# EAGLE library part POLOLU_TB6612FNG (library DVD)
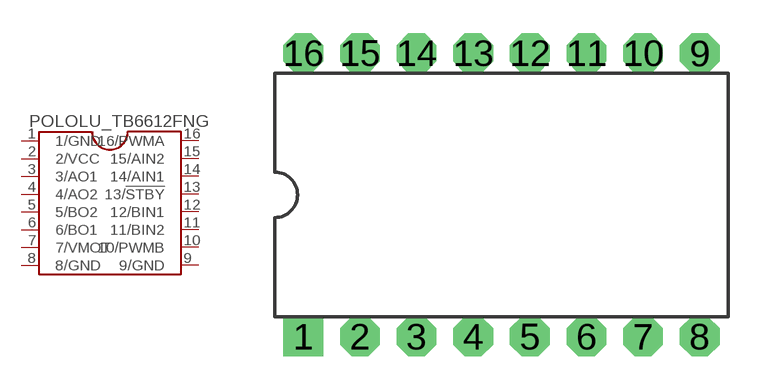
[diagram p1: symbol with the pads of DIL16WIDE; footprint DIL16WIDE]

Designator prefix -

## POLOLU_TB6612FNG  [DIL16WIDE]
1  1/GND  pwr
2  2/VCC  pwr
3  3/AO1
4  4/AO2
5  5/BO2
6  6/BO1
7  7/VMOT  pwr
8  8/GND  pwr
9  9/GND  pwr
10  10/PWMB  in
11  11/BIN2
12  12/BIN1
13  13/!STBY  in
14  14/AIN1
15  15/AIN2
16  16/PWMA  in

## Footprint DIL16WIDE (pad centres in mm)
drill 0.9 pad 1.778 square: 1 -7.62,-6.35
drill 0.9 pad 1.778 octagon: 2 -5.08,-6.35; 3 -2.54,-6.35; 4 0,-6.35; 5 2.54,-6.35; 6 5.08,-6.35; 7 7.62,-6.35; 8 10.16,-6.35; 9 10.16,6.35; 10 7.62,6.35; 11 5.08,6.35; 12 2.54,6.35; 13 0,6.35; 14 -2.54,6.35; 15 -5.08,6.35; 16 -7.62,6.35